# EAGLE library part IF_GPIO_EXP_PCA9557PWR (library !GPLIB_ACTIVE)
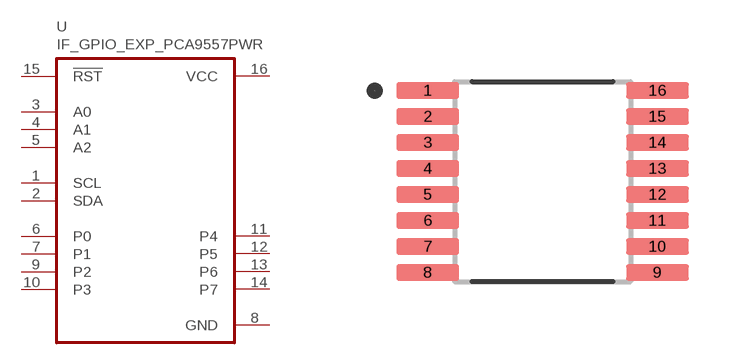
[diagram p35: symbol with the pads of SOP65P640X120-16N; footprint SOP65P640X120-16N]

Designator prefix U

## IF_GPIO_EXP_PCA9557PWR  [SOP65P640X120-16N]
1  SCL  in
2  SDA
3  A0  in
4  A1  in
5  A2  out
6  P0
7  P1
8  GND  pwr
9  P2
10  P3
11  P4
12  P5
13  P6
14  P7
15  !RST  out
16  VCC  pwr

## Footprint SOP65P640X120-16N (pad centres in mm)
smd 1.57 x 0.41: 1 -2.87,2.275; 2 -2.87,1.625; 3 -2.87,0.975; 4 -2.87,0.325; 5 -2.87,-0.325; 6 -2.87,-0.975; 7 -2.87,-1.625; 8 -2.87,-2.275; 9 2.87,-2.275; 10 2.87,-1.625; 11 2.87,-0.975; 12 2.87,-0.325; 13 2.87,0.325; 14 2.87,0.975; 15 2.87,1.625; 16 2.87,2.275